# Altium schematic symbol library IC_TI_TPS74201RGWR.SchLib: 1 symbol
Pins are listed as number, name and electrical type; pins without a type are passive.

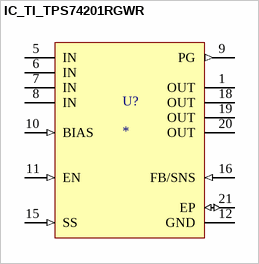
[diagram p0: symbol IC_TI_TPS74201RGWR]

## IC_TI_TPS74201RGWR
designator U?
1.5-A, low-VIN (0.8-V), low-noise, high-PSRR, adjustable ultra-low-dropout voltage regulator 20-VQFN -40 to 125; MP: TPS74201RGWR; MF: Texas Instruments; Purchase-URL: https://pricing.snapeda.com/search/part/TPS74201RGWR/?ref=eda; SnapEDA_Link: https://www.snapeda.com/parts/TPS74201RGWR/Texas%20Instruments/view-part/521588/?ref=snap; Package: VQFN-20 Texas Instruments; Check_prices: https://www.snapeda.com/parts/TPS74201RGWR/Texas%20Instruments/view-part/521588/?ref=eda; Digi-Key_Part_Number: 296-19890-1-ND; Value: *
footprint IC_TI_TPS74201RGWR
pins: 1 OUT (power), 5 IN (power), 6 IN (power), 7 IN (power), 8 IN (power), 9 PG (out), 10 BIAS (in), 11 EN (in), 12 GND (power), 15 SS (in), 16 FB/SNS (in), 18 OUT (power), 19 OUT (power), 20 OUT (power), 21 EP (io)